# Altium schematic symbol library 48037-0001.SchLib: 1 symbol
Pins are listed as number, name and electrical type; pins without a type are passive.

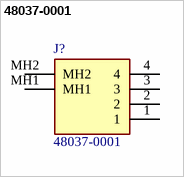
[diagram p0: symbol 48037-0001]

## 48037-0001
designator J?
USB Type A Plug Through Hole Right Angle Molex Male 1 Port Right Angle Through Hole Type A USB Connector, 150 V ac, 1.5A 48037; Geometry.Height: 4.6mm; Manufacturer_Name: Molex; Manufacturer_Part_Number: 48037-0001; Mouser Part Number: 538-48037-0001; Mouser Price/Stock: https://www.mouser.co.uk/ProductDetail/Molex/48037-0001?qs=c2CV6XM0Dwe0COJj0e1fzg%3D%3D; Arrow Part Number: *; Arrow Price/Stock: *; Datasheet Link: https://www.molex.com/pdm_docs/sd/480370001_sd.pdf
footprint 480370001
pins: 1, 2, 3, 4, MH1, MH2